# EAGLE library part SKYWRITER (library skywriter)
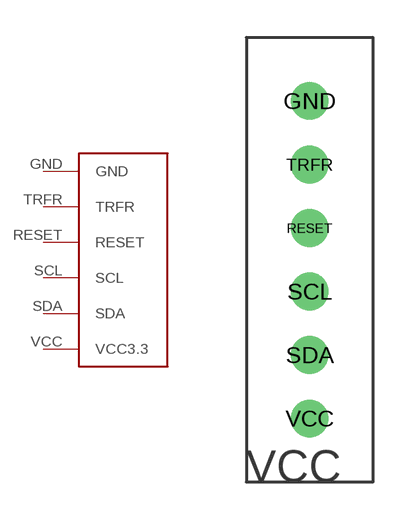
[diagram p0: symbol with the pads of SKYWRITER_DIM; footprint SKYWRITER_DIM]

Designator prefix -

## SKYWRITER  [SKYWRITER_DIM]
GND  GND
RESET  RESET
SCL  SCL
SDA  SDA
TRFR  TRFR
VCC  VCC3.3

## Footprint SKYWRITER_DIM (pad centres in mm)
drill 1: GND 0,7.62; RESET 0,2.54; SCL 0,0; SDA 0,-2.54; TRFR 0,5.08; VCC 0,-5.08